# Altium footprint library intersil-packages.PcbLib: 3 footprints
Each footprint in its own frame and in the unit in brackets; x right, y up, seen from the top. Pads: shape width x height; smd on the part's side, far side on the other; paste and mask are expansions set on the pad; w line width, h text height; cw(c..) or ccw(c..) is an arc to the next point about the centre after c.
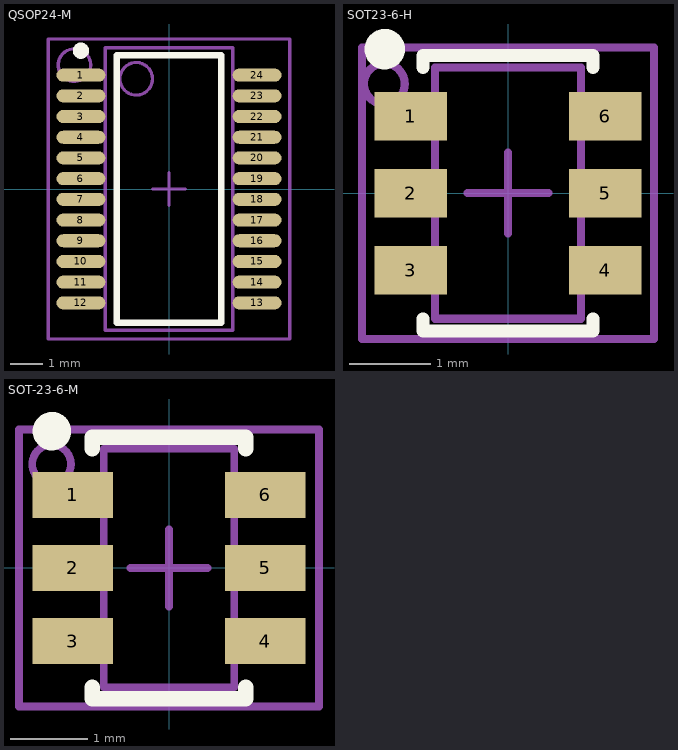
[diagram p0: the footprints below, top view; thin cyan lines are the x and y axes]

## QSOP24-M [mm] "Quarter Size Outline Plastic Package"
height 1.727
pads (24):
  oval 1.5x0.4 smd: 1(-2.7,3.492) 2(-2.7,2.857) 3(-2.7,2.222) 4(-2.7,1.587) 5(-2.7,0.953) 6(-2.7,0.318) 7(-2.7,-0.318) 8(-2.7,-0.953) 9(-2.7,-1.587) 10(-2.7,-2.222) 11(-2.7,-2.857) 12(-2.7,-3.492) 13(2.7,-3.492) 14(2.7,-2.857) 15(2.7,-2.222) 16(2.7,-1.587) 17(2.7,-0.953) 18(2.7,-0.318) 19(2.7,0.318) 20(2.7,0.953) 21(2.7,1.587) 22(2.7,2.222) 23(2.7,2.857) 24(2.7,3.492)
Top Overlay:
  circle w0.25: c-2.7,4.243 r0.125
  lines w0.2: -1.6,-4.1 1.6,-4.1 1.6,4.1 -1.6,4.1 -1.6,-4.1
Mechanical 13:
  circle w0.1: c-1.005,3.38 r0.5
  lines w0.1: -0.5,0 0.5,0 ; 0,-0.5 0,0.5 ; -1.955,-4.33 1.955,-4.33 1.955,4.33 -1.955,4.33 -1.955,-4.33
Mechanical 15:
  circle w0.1: c-2.9,3.8 r0.5
  lines w0.1: -3.7,-4.6 3.7,-4.6 3.7,4.6 -3.7,4.6 -3.7,-4.6
  text ".Designator" at 0.254,-2.413 h0.5
3D body: height 1.73, standoff 0.15, extent -1.955,-4.33 1.955,4.33

## SOT23-6-H [mm] "6-Lead Plastic Small Outline Transistor - High Density"
height 1.45
pads (6):
  rect 0.9x0.6 smd: 1(-1.2,0.95) 2(-1.2,0) 3(-1.2,-0.95) 4(1.2,-0.95) 5(1.2,0) 6(1.2,0.95)
Top Overlay:
  circle w0.25: c-1.522,1.778 r0.125
  lines w0.16: -1.05,-1.55 -1.05,-1.7 1.05,-1.7 1.05,-1.55 ; -1.05,1.55 -1.05,1.7 1.05,1.7 1.05,1.55
Mechanical 13:
  lines w0.1: -0.5,0 0.5,0 ; 0,-0.5 0,0.5 ; -0.9,-1.55 -0.9,1.55 0.9,1.55 0.9,-1.55 -0.9,-1.55
Mechanical 15:
  circle w0.1: c-1.526,1.35 r0.251
  lines w0.1: -1.8,-1.8 -1.8,1.8 1.8,1.8 1.8,-1.8 -1.8,-1.8
  text ".Designator" at -0.2,1.275 h0.5
3D body: height 1, standoff 0, extent -1.17,-1.46 1.17,1.46

## SOT-23-6-M [mm] "6-Lead Plastic Small Outline Transistor - Medium Density"
height 1.45
pads (6):
  rect 1.05x0.6 smd: 1(-1.25,0.95) 2(-1.25,0) 3(-1.25,-0.95) 4(1.25,-0.95) 5(1.25,0) 6(1.25,0.95)
Top Overlay:
  circle w0.25: c-1.522,1.778 r0.125
  lines w0.2: -1,-1.55 -1,-1.7 1,-1.7 1,-1.55 ; -1,1.55 -1,1.7 1,1.7 1,1.55
Mechanical 13:
  lines w0.1: -0.5,0 0.5,0 ; 0,-0.5 0,0.5 ; -0.85,-1.55 0.85,-1.55 0.85,1.55 -0.85,1.55 -0.85,-1.55
Mechanical 15:
  circle w0.1: c-1.526,1.35 r0.251
  lines w0.1: -1.95,-1.8 1.95,-1.8 1.95,1.8 -1.95,1.8 -1.95,-1.8
  text ".Designator" at -0.2,1.275 h0.5
3D body: height 1, standoff 0, extent -1.17,-1.46 1.17,1.46